# Altium footprint library QUTMS_OctocouplerLibrary.PcbLib: 1 footprints
Each footprint in its own frame and in the unit in brackets; x right, y up, seen from the top. Pads: shape width x height; smd on the part's side, far side on the other; paste and mask are expansions set on the pad; w line width, h text height; cw(c..) or ccw(c..) is an arc to the next point about the centre after c.
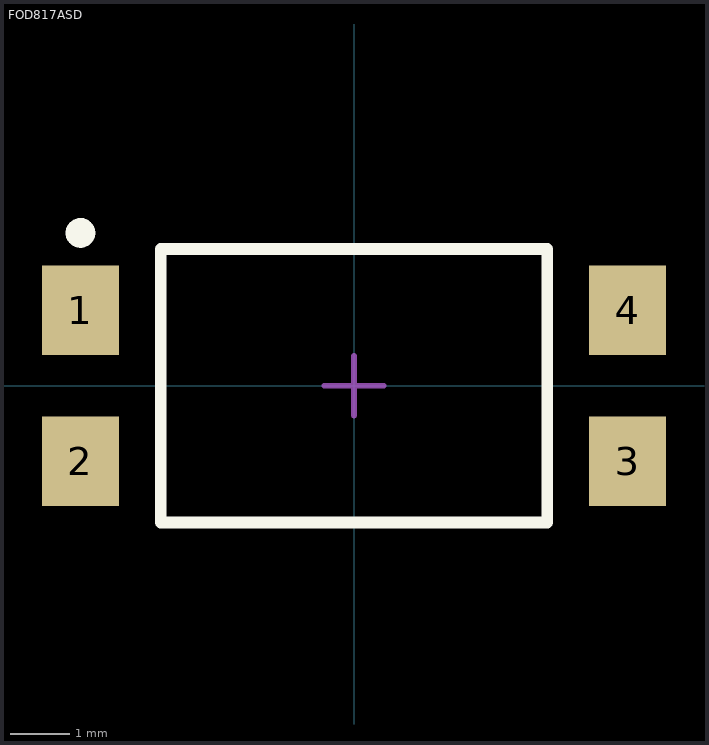
[diagram p0: the footprint, top view; thin cyan lines are the x and y axes]

## FOD817ASD [mm]
pads (4):
  rect 1.3x1.5 smd: 1(-4.6,1.27) 2(-4.6,-1.27) 3(4.6,-1.27) 4(4.6,1.27)
Top Overlay:
  circle w0.25: c-4.6,2.57 r0.125
  lines w0.2: -3.25,-2.3 3.25,-2.3 3.25,2.3 -3.25,2.3 -3.25,-2.3
Mechanical 13:
  lines w0.1: -3.25,-2.3 3.25,-2.3 3.25,2.3 -3.25,2.3 -3.25,-2.3
Mechanical 15:
  lines w0.1: -0.5,0 0.5,0 ; 0,-0.5 0,0.5
3D body "SOP254P1020X385-4L.step": height 3.85, standoff 0, extent -5.08,-2.3 5.08,2.3